# EAGLE library part LTC6400 (library Jim)
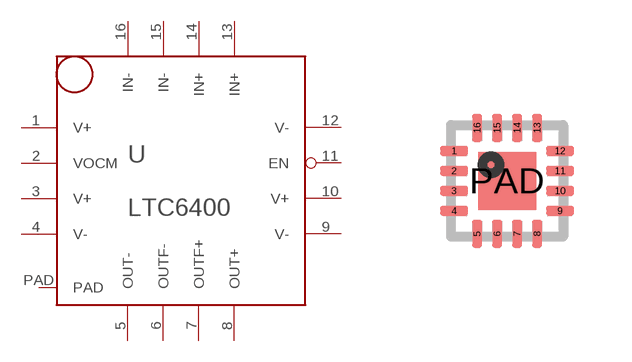
[diagram p33: symbol with the pads of MLF16; footprint MLF16]

Designator prefix -

## LTC6400  [MLF16]
1  V+
2  VOCM
3  V+
4  V-
5  OUT-
6  OUTF-
7  OUTF+
8  OUT+
9  V-
10  V+
11  EN
12  V-
13  IN+
14  IN+
15  IN-
16  IN-
PAD  PAD

## Footprint MLF16 (pad centres in mm)
smd 0.7 x 0.25: 1 -1.325,0.75; 2 -1.325,0.25; 3 -1.325,-0.25; 4 -1.325,-0.75; 9 1.325,-0.75; 10 1.325,-0.25; 11 1.325,0.25; 12 1.325,0.75
smd 0.25 x 0.7: 5 -0.75,-1.325; 6 -0.25,-1.325; 7 0.25,-1.325; 8 0.75,-1.325; 13 0.75,1.325; 14 0.25,1.325; 15 -0.25,1.325; 16 -0.75,1.325
smd 1.45 x 1.45: PAD 0,0